# Altium footprint library PCB1.PcbLib: 76 footprints (part 5 of 5)
Each footprint in its own frame and in the unit in brackets; x right, y up, seen from the top. Pads: shape width x height; smd on the part's side, far side on the other; paste and mask are expansions set on the pad; w line width, h text height; cw(c..) or ccw(c..) is an arc to the next point about the centre after c.
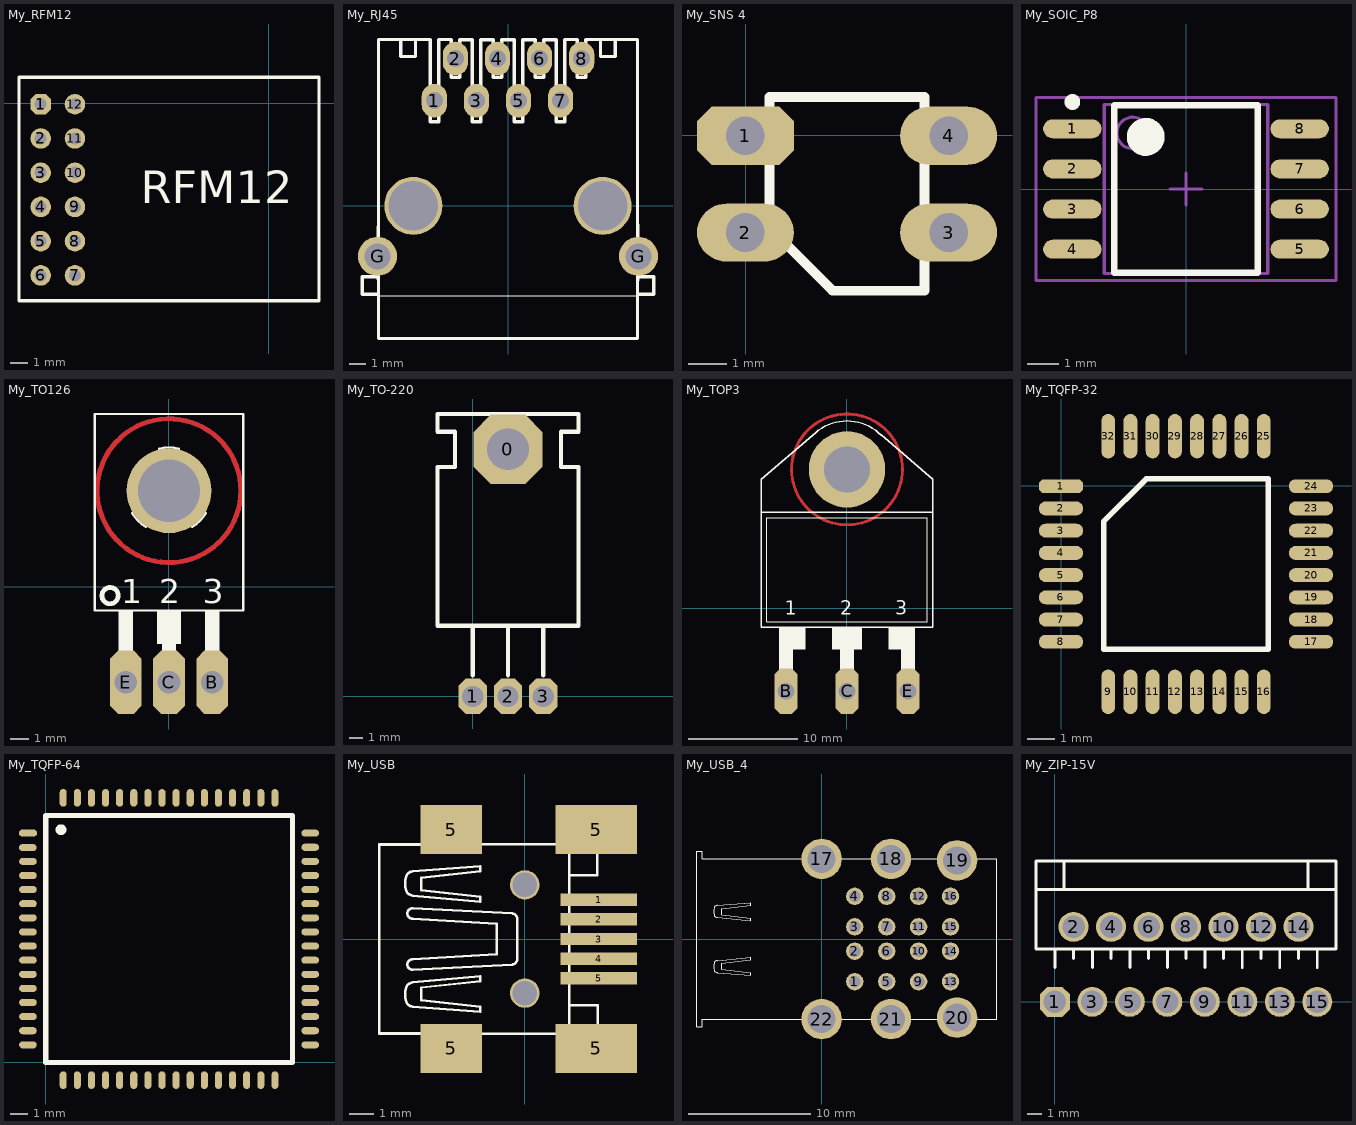
[diagram p4: the footprints below, top view; thin cyan lines are the x and y axes]

## My_RFM12 [mm]
pads (12):
  oct 1.2x1.2 hole 0.7: 1(-13.335,-0.064)
  round 1.2 hole 0.7: 2(-13.335,-2.064) 3(-13.335,-4.064) 4(-13.335,-6.064) 5(-13.335,-8.064) 6(-13.335,-10.064) 7(-11.335,-10.064) 8(-11.335,-8.064) 9(-11.335,-6.064) 10(-11.335,-4.064) 11(-11.335,-2.064) 12(-11.335,-0.064)
Top Overlay:
  lines w0.2: -14.605,1.524 -14.605,-11.557 2.921,-11.557 2.921,1.443 ; -14.579,1.524 2.921,1.524
  text "RFM12" at -7.493,-5.842 h1.91

## My_RJ45 [mil]
pads (12):
  oval 60x80 hole 40: 1(-175,250) 2(-125,350) 3(-75,250) 4(-25,350) 5(25,250) 6(75,350) 7(125,250) 8(175,350)
  round 93 hole 62: G(-310,-120) G(310,-120)
  round 137.79 hole 118.11 unplated: ""(-225,0) ""(225,0)
Top Overlay:
  lines w2: -310,-214 310,-214
  lines w8: -308.86,-168.22 -346.42,-168.22 -346.42,-209.88 -308.82,-209.88 ; -308,-175 -308,-50 ; -307.91,-175 -307.91,-315.39 307.91,-315.39 307.91,-175 ; -307.91,-50 -307.91,395.4 -185,395.4 ; -255,395 -255,355 -220,355 -220,395 ; -185,395 -185,285 -185,210 -185,200 -165,200 -165,210 -165,285 -165,395.4 -135,395.4 -135,305 -115,305 -115,395 -85,395 -85,285 -85,210 -85,200 -65,200 -65,210 -65,285 -65,395.4 ; -65,395 -35,395 -35,305 -15,305 -15,395 15,395 15,285 15,210 15,200 35,200 35,210 35,285 35,395.4 ; 35,395 65,395 65,305 85,305 85,395 115,395 115,285 115,210 115,200 135,200 135,210 135,285 135,395.4 165,395.4 165,305 185,305 185,395 ; 185,395.4 307.91,395.4 307.91,-50 ; 220,395 220,355 255,355 255,395 ; 308,-177 308,-45 ; 309.8,-209.88 346.41,-209.88 346.41,-168.22 309.84,-168.22

## My_SNS 4 [mil]
pads (4):
  oct 100x60 hole 40: 1(-0.5,-0.5)
  oval 100x60 hole 40: 2(-0.5,-100.5) 3(209.5,-100.5) 4(209.5,-0.5)
Top Overlay:
  lines w10: 24.5,-95.5 89.5,-160.5 99.5,-160.5 184.5,-160.5 184.5,39.5 134.5,39.5 84.5,39.5 24.5,39.5 24.5,-70.5 24.5,-95.5

## My_SOIC_P8 [mm]
pads (8):
  oval 1.85x0.6 smd: 1(-3.6,1.905) 2(-3.6,0.635) 3(-3.6,-0.635) 4(-3.6,-1.905) 5(3.6,-1.905) 6(3.6,-0.635) 7(3.6,0.635) 8(3.6,1.905)
Top Overlay:
  circle w0.25: c-3.6,2.755 r0.125
  circle w0.6: c-1.275,1.65 r0.3
  lines w0.2: -2.275,-2.65 -2.275,2.65 2.275,2.65 2.275,-2.65 -2.275,-2.65
Mechanical 13:
  circle w0.1: c-1.69,1.775 r0.5
  lines w0.1: -2.59,-2.675 -2.59,2.675 2.59,2.675 2.59,-2.675 -2.59,-2.675
Mechanical 15:
  lines w0.1: -0.5,0 0.5,0 ; 0,-0.5 0,0.5 ; -4.75,-2.9 -4.75,2.9 4.75,2.9 4.75,-2.9 -4.75,-2.9
3D body: height 2.16, standoff 0.05, extent -2.59,-2.675 2.59,2.675

## My_TO126 [mm]
pads (4):
  oct 1.676x3.353 hole 1.2: B(2.291,-5.076) C(0.005,-5.076) E(-2.281,-5.076)
  round 4.5 hole 3.3 unplated: ""(0.005,5.084)
Top Layer:
  circle w0.254: c0.005,5.084 r3.81
Bottom Layer:
  circle w0.254: c0.005,5.084 r3.81
Top Overlay:
  circle w0.127: c0.005,5.084 r1.651
  circle w0.254: c-3.119,-0.479 r0.432
  rectangle: 1.91,-5.203 2.672,-3.425
  rectangle: 1.91,-3.425 2.672,-1.266
  rectangle: -0.376,-5.203 0.386,-3.425
  rectangle: -0.376,-3.425 0.386,-1.266
  rectangle: -2.662,-5.203 -1.9,-3.425
  rectangle: -2.662,-3.425 -1.9,-1.266
  rectangle: -0.63,-3.044 0.64,-1.266
  lines w0.127: -1.474,4.349 -1.944,3.89 ccw(c0.005,5.084) -1.234,3.163 -0.764,3.623 ; -0.503,6.655 -0.503,7.313 cw(c0.005,5.084) 0.513,7.313 0.513,6.655 ; 0.774,3.623 1.244,3.163 ccw(c0.005,5.084) 1.954,3.889 1.484,4.349 ; -3.932,-1.266 3.942,-1.266 3.942,9.148 -3.932,9.148 -3.932,-1.266
  text "3" at 1.783,-0.885 h1.27
  text "2" at -0.503,-0.885 h1.27
  text "1" at -2.535,-0.885 h1.27

## My_TO-220 [mil]
pads (4):
  oct 196.85x196.85 hole 118.11: 0(99.49,699.49)
  oct 80x100 hole 60: 1(-0.5,-0.5) 2(99.5,-0.5) 3(199.5,-0.5)
Top Overlay:
  lines w12: -0.5,59.5 -0.5,199.5 ; 99.5,59.5 99.5,199.5 ; 199.5,59.5 199.5,199.5 ; -100.5,199.5 -100.5,649.5 -50.5,649.5 -50.5,749.5 -100.5,749.5 -100.5,799.5 299.5,799.5 299.5,749.5 249.5,749.5 249.5,649.5 299.5,649.5 299.5,199.5 -100.5,199.5

## My_TOP3 [mil]
pads (4):
  oct 82.5x165.01 hole 60: B(-219.8,-299.85) C(0.2,-299.85) E(220.2,-299.85)
  round 275.59 hole 165.35 unplated: ""(0.2,500.15)
Top Layer:
  circle w10: c0.2,500.15 r200
Bottom Layer:
  circle w10: c0.2,500.15 r200
Top Overlay:
  rectangle: 195.2,-299.85 245.2,-224.85
  rectangle: 195.2,-224.85 245.2,-149.85
  rectangle: -24.8,-299.85 25.2,-224.85
  rectangle: -24.8,-224.85 25.2,-149.85
  rectangle: -244.8,-299.85 -194.8,-224.85
  rectangle: -244.8,-224.85 -194.8,-149.85
  rectangle: 150.2,-149.85 245.2,-69.85
  rectangle: -54.8,-149.85 55.2,-69.85
  rectangle: -244.8,-149.85 -149.8,-69.85
  lines w2: -289.8,-49.85 -289.8,325.15 290.2,325.15 290.2,-49.85 -289.8,-49.85
  lines w5: -123.54,623.89 cw(c0.2,500.15) 0.2,675.15 cw(c0.2,500.15) 123.94,623.89 ; -122.8,624.15 -309.8,465.15 -309.8,345.15 ; 123.2,625.15 310.2,465.15 310.2,345.15 ; -309.8,345.15 310.2,345.15 ; -309.8,345.15 -309.8,-69.85 310.2,-69.85 310.2,345.15
  text "3" at 175.2,-24.85 h50
  text "2" at -24.8,-24.85 h50
  text "1" at -224.8,-24.85 h50

## My_TQFP-32 [mm]
pads (32):
  oct 1.6x0.5 smd: 1(-0.013,-0.019)
  oval 1.6x0.5 smd: 2(-0.013,-0.819) 3(-0.013,-1.619) 4(-0.013,-2.419) 5(-0.013,-3.219) 6(-0.013,-4.019) 7(-0.013,-4.819) 8(-0.013,-5.619) 17(8.987,-5.619) 18(8.987,-4.819) 19(8.987,-4.019) 20(8.987,-3.219) 21(8.987,-2.419) 22(8.987,-1.619) 23(8.987,-0.819) 24(8.987,-0.019)
  oval 0.5x1.6 smd: 9(1.687,-7.419) 10(2.487,-7.419) 11(3.287,-7.419) 12(4.087,-7.419) 13(4.887,-7.419) 14(5.687,-7.419) 15(6.487,-7.419) 16(7.287,-7.419) 25(7.287,1.781) 26(6.487,1.781) 27(5.687,1.781) 28(4.887,1.781) 29(4.087,1.781) 30(3.287,1.781) 31(2.487,1.781) 32(1.687,1.781)
Top Overlay:
  lines w0.2: 1.522,-5.884 7.452,-5.884 7.452,0.246 3.057,0.246 1.522,-1.289 1.522,-5.884

## My_TQFP-64 [mm]
pads (64):
  oct 1x0.4 smd: 1(-1.022,12.997)
  oval 1x0.4 smd: 2(-1.029,12.179) 3(-1.022,11.397) 4(-1.022,10.597) 5(-1.022,9.797) 6(-1.022,8.997) 7(-1.022,8.197) 8(-1.022,7.397) 9(-1.022,6.597) 10(-1.022,5.797) 11(-1.022,4.997) 12(-1.022,4.197) 13(-1.022,3.397) 14(-1.022,2.597) 15(-1.022,1.797) 16(-1.022,0.997) 33(14.978,0.997) 34(14.978,1.797) 35(14.978,2.597) 36(14.978,3.397) 37(14.978,4.197) 38(14.978,4.997) 39(14.978,5.797) 40(14.978,6.597) 41(14.978,7.397) 42(14.978,8.197) 43(14.978,8.997) 44(14.978,9.797) 45(14.978,10.597) 46(14.978,11.397) 47(14.978,12.197) 48(14.978,12.997)
  oval 0.4x1 smd: 17(0.978,-1.003) 18(1.778,-1.003) 19(2.578,-1.003) 20(3.378,-1.003) 21(4.178,-1.003) 22(4.978,-1.003) 23(5.778,-1.003) 24(6.578,-1.003) 25(7.378,-1.003) 26(8.178,-1.003) 27(8.978,-1.003) 28(9.778,-1.003) 29(10.578,-1.003) 30(11.378,-1.003) 31(12.178,-1.003) 32(12.978,-1.003) 49(12.978,14.997) 50(12.178,14.997) 51(11.378,14.997) 52(10.578,14.997) 53(9.778,14.997) 54(8.978,14.997) 55(8.178,14.997) 56(7.378,14.997) 57(6.578,14.997) 58(5.778,14.997) 59(4.978,14.997) 60(4.178,14.997) 61(3.378,14.997) 62(2.578,14.997) 63(1.778,14.997) 64(0.978,14.997)
Top Overlay:
  circle w0.305: c0.851,13.195 r0.152
  lines w0.305: -0.022,-0.003 13.978,-0.003 13.978,13.997 -0.022,13.997 -0.022,-0.003

## My_USB [mm]
pads (11):
  rect 3.1x0.5 smd: 1(3,1.6) 2(3,0.8) 3(3,0) 4(3,-0.8) 5(3,-1.6)
  rect 2.5x2 smd: 5(-3,-4.45) 5(-3,4.45)
  rect 3.3x2 smd: 5(2.9,-4.45) 5(2.9,4.45)
  round 1.2 hole 1 unplated: ""(0,-2.2) ""(0,2.2)
Top Overlay:
  lines w0.102: -4.415,-3.841 -5.918,-3.841 ; -4.415,3.841 -5.918,3.842 ; -2.309,-3.841 -2.309,-4.88 -2.702,-4.88 -2.702,-4.464 -3.325,-4.464 -3.325,-4.88 -3.688,-4.88 -3.688,-3.841 -5.918,-3.841 ; -2.309,3.842 -2.309,4.88 -2.702,4.88 -2.702,4.465 -3.325,4.465 -3.325,4.88 -3.688,4.88 -3.688,3.842 -5.918,3.842 ; -1.603,-3.847 1.084,-3.847 ; -1.552,3.847 0.983,3.847 ; -0.312,0.831 ccw(c-0.531,0.819) -0.519,1.038 -4.568,1.246 ccw(c-4.569,1.038) -4.776,1.038 ccw(c-4.569,1.038) -4.569,0.831 -1.142,0.623 -1.142,-0.623 -4.569,-0.83 ccw(c-4.569,-1.038) -4.776,-1.038 ccw(c-4.569,-1.038) -4.569,-1.246 -0.519,-1.038 ccw(c-0.531,-0.818) -0.312,-0.83 -0.312,0.831 ; 1.713,-3.885 1.713,-4.88 2.128,-4.88 2.128,-4.464 2.647,-4.464 2.647,-4.88 3.163,-4.88 3.163,-3.852 ; 1.713,3.886 1.713,4.88 2.128,4.88 2.128,4.465 2.647,4.465 2.647,4.88 3.164,4.88 3.164,3.852 ; 1.81,-3.847 1.81,3.78 ; 1.81,-3.324 1.81,-2.7 2.957,-2.7 ; 1.81,3.324 1.81,2.599 2.94,2.599 ; 2.94,3.324 2.94,2.599 ; 2.94,3.797 2.94,2.599 ; 2.957,-3.822 2.957,-2.7 ; 2.957,-3.332 2.957,-2.7 ; 3.16,-3.847 -5.923,-3.847 -5.923,3.847 3.16,3.847 ; -5.918,-3.841 -5.918,3.842 ; -5.918,-3.841 -5.918,-3.841 ; -4.828,-2.543 cw(c-3.897,-2.258) -4.828,-1.972 cw(c-4.546,-2.059) -4.569,-1.765 -1.817,-1.505 -1.817,-1.713 -4.205,-1.972 -4.205,-2.491 -1.817,-2.751 -1.817,-2.959 -4.569,-2.751 cw(c-4.546,-2.457) -4.828,-2.543 ; -4.828,1.973 ccw(c-4.546,2.059) -4.569,1.765 -1.817,1.506 -1.817,1.713 -4.205,1.973 -4.205,2.492 -1.817,2.752 -1.817,2.959 -4.569,2.752 ccw(c-4.546,2.458) -4.828,2.544 ccw(c-3.897,2.258) -4.828,1.973

## My_USB_4 [mm]
pads (22):
  round 1.428 hole 0.92: 1(2.71,-3.5) 2(2.71,-1) 3(2.71,1) 4(2.71,3.5) 5(5.33,-3.5) 6(5.33,-1) 7(5.33,1) 8(5.33,3.5) 9(7.95,-3.5) 10(7.95,-1) 11(7.95,1) 12(7.95,3.5) 13(10.57,-3.5) 14(10.57,-1) 15(10.57,1) 16(10.57,3.5)
  round 3.316 hole 2.3: 17(0,6.57) 18(5.68,6.57) 19(11.1,6.45) 20(11.1,-6.45) 21(5.68,-6.57) 22(0,-6.57)
Top Overlay:
  lines w0.102: -10.225,-7.2 -9.775,-7.2 -9.775,-6.6 -1.825,-6.6 1.85,-6.6 3.75,-6.6 7.5,-6.6 9.075,-6.6 13.15,-6.6 14.375,-6.6 14.375,6.6 13.125,6.6 9.225,6.6 7.5,6.6 3.85,6.6 1.975,6.6 -1.925,6.6 -9.775,6.6 -9.775,7.2 -10.225,7.2 -10.225,-7.2 ; -8.828,-2.543 ccw(c-8.546,-2.457) -8.568,-2.751 -5.817,-2.959 -5.817,-2.751 -8.205,-2.491 -8.205,-1.972 -5.817,-1.713 -5.817,-1.505 -8.568,-1.765 ccw(c-8.546,-2.059) -8.828,-1.972 ccw(c-7.897,-2.258) -8.828,-2.543 ; -8.828,1.973 cw(c-7.897,2.258) -8.828,2.544 cw(c-8.546,2.458) -8.568,2.752 -5.817,2.959 -5.817,2.752 -8.205,2.492 -8.205,1.973 -5.817,1.713 -5.817,1.506 -8.568,1.765 cw(c-8.546,2.059) -8.828,1.973

## My_ZIP-15V [mil]
pads (15):
  oct 80x80 hole 60: 1(-0.5,-0.5)
  round 80 hole 60: 2(49.5,199.5) 3(99.5,-0.5) 4(149.5,199.5) 5(199.5,-0.5) 6(249.5,199.5) 7(299.5,-0.5) 8(349.5,199.5) 9(399.5,-0.5) 10(449.5,199.5) 11(499.5,-0.5) 12(549.5,199.5) 13(599.5,-0.5) 14(649.5,199.5) 15(699.5,-0.5)
Top Overlay:
  lines w7.87: -50.66,140.41 -50.5,282.83 -50.5,374.5 749.5,374.5 749.5,299.5 ; -50.5,140.41 749.5,140.41 749.5,299.5 ; -50.5,299.5 749.5,299.5 ; -0.5,90.41 -0.5,140.41 ; 24.5,299.5 24.5,374.5 ; 49.5,115.41 49.5,140.41 ; 99.5,90.41 99.5,140.41 ; 149.5,115.41 149.5,140.41 ; 199.5,90.41 199.5,140.41 ; 249.5,115.41 249.5,140.41 ; 299.5,90.41 299.5,140.41 ; 349.5,115.41 349.5,140.41 ; 399.5,90.41 399.5,140.41 ; 449.5,115.41 449.5,140.41 ; 499.5,90.41 499.5,140.41 ; 549.5,115.41 549.5,140.41 ; 599.5,90.41 599.5,140.41 ; 649.5,115.41 649.5,140.41 ; 674.5,299.5 674.5,374.5 ; 699.5,90.41 699.5,140.41